# Altium footprint library 74xx-us.PCBLIB: 32 footprints (part 2 of 2)
Each footprint in its own frame and in the unit in brackets; x right, y up, seen from the top. Pads: shape width x height; smd on the part's side, far side on the other; paste and mask are expansions set on the pad; w line width, h text height; cw(c..) or ccw(c..) is an arc to the next point about the centre after c.
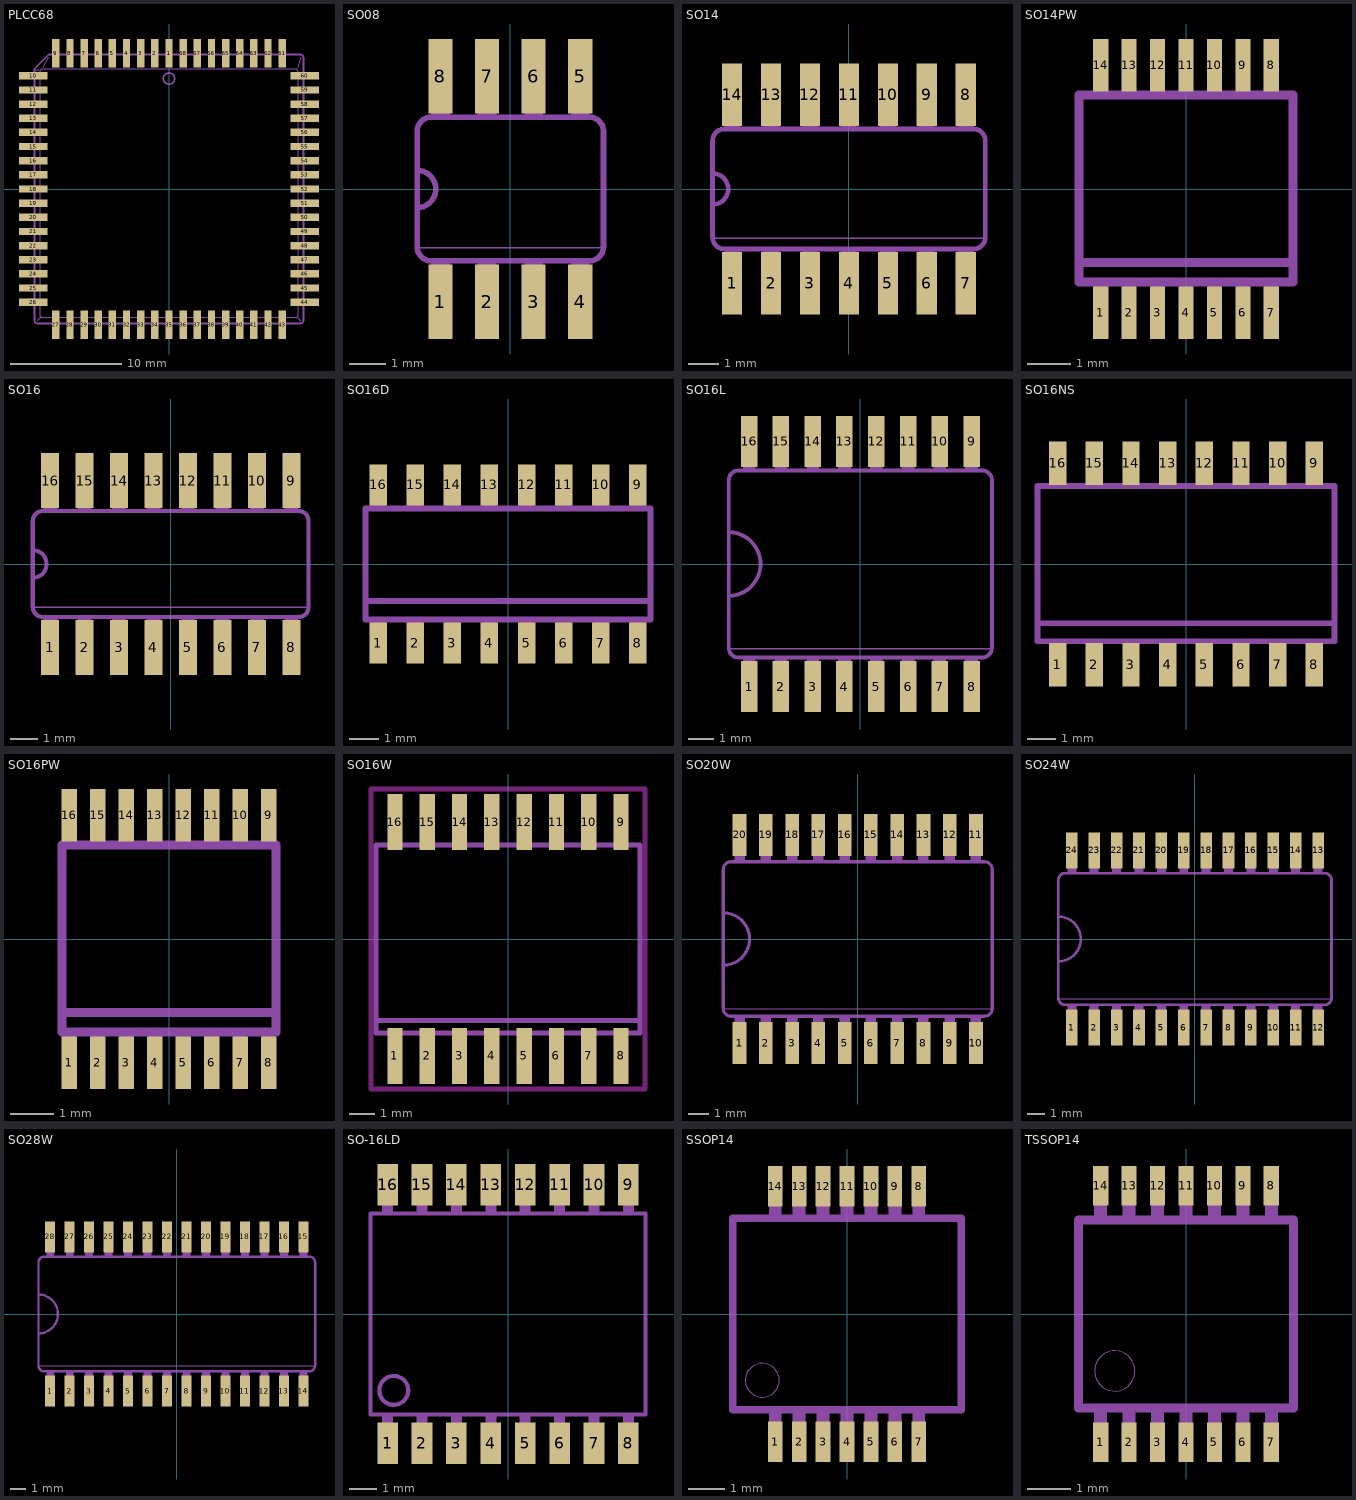
[diagram p1: the footprints below, top view; thin cyan lines are the x and y axes]

## PLCC68 [mil]
pads (68):
  rect 26x100 smd: 1(0,480) 2(-50,480) 3(-100,480) 4(-150,480) 5(-200,480) 6(-250,480) 7(-300,480) 8(-350,480) 9(-400,480) 27(-400,-480) 28(-350,-480) 29(-300,-480) 30(-250,-480) 31(-200,-480) 32(-150,-480) 33(-100,-480) 34(-50,-480) 35(0,-480) 36(50,-480) 37(100,-480) 38(150,-480) 39(200,-480) 40(250,-480) 41(300,-480) 42(350,-480) 43(400,-480) 61(400,480) 62(350,480) 63(300,480) 64(250,480) 65(200,480) 66(150,480) 67(100,480) 68(50,480)
  rect 100x26 smd: 10(-480,400) 11(-480,350) 12(-480,300) 13(-480,250) 14(-480,200) 15(-480,150) 16(-480,100) 17(-480,50) 18(-480,0) 19(-480,-50) 20(-480,-100) 21(-480,-150) 22(-480,-200) 23(-480,-250) 24(-480,-300) 25(-480,-350) 26(-480,-400) 44(480,-400) 45(480,-350) 46(480,-300) 47(480,-250) 48(480,-200) 49(480,-150) 50(480,-100) 51(480,-50) 52(480,0) 53(480,50) 54(480,100) 55(480,150) 56(480,200) 57(480,250) 58(480,300) 59(480,350) 60(480,400)
Mechanical 2:
  circle w6: c0,390 r20
  lines w6: -475,-417 -475,-465 ccw(c-465,-465) -465,-475 -417,-475 ; -475,-383 -475,-367 ; -475,-333 -475,-317 ; -475,-283 -475,-267 ; -475,-233 -475,-217 ; -475,-183 -475,-167 ; -475,-133 -475,-117 ; -475,-83 -475,-67 ; -475,-33 -475,-17 ; -475,17 -475,33 ; -475,67 -475,83 ; -475,117 -475,133 ; -475,167 -475,183 ; -475,217 -475,233 ; -475,267 -475,283 ; -475,317 -475,333 ; -475,367 -475,383 ; -475,417 -475,425 -425,475 -417,475 ; -383,-475 -367,-475 ; -383,475 -367,475 ; -333,-475 -317,-475 ; -333,475 -317,475 ; -283,-475 -267,-475 ; -283,475 -267,475 ; -233,-475 -217,-475 ; -233,475 -217,475 ; -183,-475 -167,-475 ; -183,475 -167,475 ; -133,-475 -117,-475 ; -133,475 -117,475 ; -83,-475 -67,-475 ; -83,475 -67,475 ; -33,-475 -17,-475 ; -33,475 -17,475 ; 17,-475 33,-475 ; 17,475 33,475 ; 67,-475 83,-475 ; 67,475 83,475 ; 117,-475 133,-475 ; 117,475 133,475 ; 167,-475 183,-475 ; 167,475 183,475 ; 217,-475 233,-475 ; 217,475 233,475 ; 267,-475 283,-475 ; 267,475 283,475 ; 317,-475 333,-475 ; 317,475 333,475 ; 367,-475 383,-475 ; 367,475 383,475 ; 417,-475 465,-475 ccw(c465,-465) 475,-465 475,-417 ; 417,475 465,475 cw(c465,465) 475,465 475,417 ; 475,-383 475,-367 ; 475,-333 475,-317 ; 475,-283 475,-267 ; 475,-233 475,-217 ; 475,-183 475,-167 ; 475,-133 475,-117 ; 475,-83 475,-67 ; 475,-33 475,-17 ; 475,17 475,33 ; 475,67 475,83 ; 475,117 475,133 ; 475,167 475,183 ; 475,217 475,233 ; 475,267 475,283 ; 475,317 475,333 ; 475,367 475,383
Mechanical 18:
  rectangle: 475,-60 500,-40
  rectangle: 475,-10 500,10
  rectangle: 475,-410 500,-390
  rectangle: 475,-360 500,-340
  rectangle: 475,-210 500,-190
  rectangle: 475,-160 500,-140
  rectangle: 475,-110 500,-90
  rectangle: 475,-310 500,-290
  rectangle: 475,-260 500,-240
  rectangle: 475,40 500,60
  rectangle: 475,90 500,110
  rectangle: 475,140 500,160
  rectangle: 475,190 500,210
  rectangle: 475,240 500,260
  rectangle: 475,290 500,310
  rectangle: 475,340 500,360
  rectangle: 475,390 500,410
  rectangle: -60,-500 -40,-475
  rectangle: -10,-500 10,-475
  rectangle: -410,-500 -390,-475
  rectangle: -360,-500 -340,-475
  rectangle: -210,-500 -190,-475
  rectangle: -160,-500 -140,-475
  rectangle: -110,-500 -90,-475
  rectangle: -310,-500 -290,-475
  rectangle: -260,-500 -240,-475
  rectangle: 40,-500 60,-475
  rectangle: 90,-500 110,-475
  rectangle: 140,-500 160,-475
  rectangle: 190,-500 210,-475
  rectangle: 240,-500 260,-475
  rectangle: 290,-500 310,-475
  rectangle: 340,-500 360,-475
  rectangle: 390,-500 410,-475
  rectangle: -500,40 -475,60
  rectangle: -500,-10 -475,10
  rectangle: -500,390 -475,410
  rectangle: -500,340 -475,360
  rectangle: -500,190 -475,210
  rectangle: -500,140 -475,160
  rectangle: -500,90 -475,110
  rectangle: -500,290 -475,310
  rectangle: -500,240 -475,260
  rectangle: -500,-60 -475,-40
  rectangle: -500,-110 -475,-90
  rectangle: -500,-160 -475,-140
  rectangle: -500,-210 -475,-190
  rectangle: -500,-260 -475,-240
  rectangle: -500,-310 -475,-290
  rectangle: -500,-360 -475,-340
  rectangle: -500,-410 -475,-390
  rectangle: 40,475 60,500
  rectangle: -10,475 10,500
  rectangle: 390,475 410,500
  rectangle: 340,475 360,500
  rectangle: 190,475 210,500
  rectangle: 140,475 160,500
  rectangle: 90,475 110,500
  rectangle: 290,475 310,500
  rectangle: 240,475 260,500
  rectangle: -60,475 -40,500
  rectangle: -110,475 -90,500
  rectangle: -160,475 -140,500
  rectangle: -210,475 -190,500
  rectangle: -260,475 -240,500
  rectangle: -310,475 -290,500
  rectangle: -360,475 -340,500
  rectangle: -410,475 -390,500
  lines w2: -470,420 -460,420 ; -465,-465 -455,-455 ; -445,430 -425,465 ; 455,-455 465,-465 ; 455,430 465,465 ; -455,-450 -450,-455 450,-455 455,-450 455,420 450,425 -450,425 -455,420 -455,-450
  lines w6: -475,-415 -475,-385 ; -475,-365 -475,-335 ; -475,-315 -475,-285 ; -475,-265 -475,-235 ; -475,-215 -475,-185 ; -475,-165 -475,-135 ; -475,-115 -475,-85 ; -475,-65 -475,-35 ; -475,-15 -475,15 ; -475,35 -475,65 ; -475,85 -475,115 ; -475,135 -475,165 ; -475,185 -475,215 ; -475,235 -475,265 ; -475,285 -475,315 ; -475,335 -475,365 ; -475,385 -475,415 ; -415,-475 -385,-475 ; -415,475 -385,475 ; -365,-475 -335,-475 ; -365,475 -335,475 ; -315,-475 -285,-475 ; -315,475 -285,475 ; -265,-475 -235,-475 ; -265,475 -235,475 ; -215,-475 -185,-475 ; -215,475 -185,475 ; -165,-475 -135,-475 ; -165,475 -135,475 ; -115,-475 -85,-475 ; -115,475 -85,475 ; -65,-475 -35,-475 ; -65,475 -35,475 ; -15,-475 15,-475 ; -15,475 15,475 ; 35,-475 65,-475 ; 35,475 65,475 ; 85,-475 115,-475 ; 85,475 115,475 ; 135,-475 165,-475 ; 135,475 165,475 ; 185,-475 215,-475 ; 185,475 215,475 ; 235,-475 265,-475 ; 235,475 265,475 ; 285,-475 315,-475 ; 285,475 315,475 ; 335,-475 365,-475 ; 335,475 365,475 ; 385,-475 415,-475 ; 385,475 415,475 ; 475,-415 475,-385 ; 475,-365 475,-335 ; 475,-315 475,-285 ; 475,-265 475,-235 ; 475,-215 475,-185 ; 475,-165 475,-135 ; 475,-115 475,-85 ; 475,-65 475,-35 ; 475,-15 475,15 ; 475,35 475,65 ; 475,85 475,115 ; 475,135 475,165 ; 475,185 475,215 ; 475,235 475,265 ; 475,285 475,315 ; 475,335 475,365 ; 475,385 475,415

## SO08 [mil]
pads (8):
  rect 26x80 smd: 1(-75,-121) 2(-25,-121) 3(25,-121) 4(75,-121) 5(75,121) 6(25,121) 7(-25,121) 8(-75,121)
Mechanical 2:
  lines w2: -100,-63 100,-63
  lines w6: -100,-20 -100,20 ; -100,-20 -100,-62 ccw(c-85,-62) -85,-77 85,-77 ccw(c85,-62) 100,-62 100,62 ccw(c85,62) 85,77 -85,77 ccw(c-85,62) -100,62 -100,20 ; -100,-20 ccw(c-100,0) -100,20
Mechanical 18:
  rectangle: 65,77 85,122
  rectangle: -85,-122 -65,-77
  rectangle: -35,-122 -15,-77
  rectangle: 15,-121 35,-76
  rectangle: 65,-122 85,-77
  rectangle: 15,77 35,122
  rectangle: -35,77 -15,122
  rectangle: -85,77 -65,122

## SO14 [mil]
pads (14):
  rect 26x80 smd: 1(-150,-121) 2(-100,-121) 3(-50,-121) 4(0,-121) 5(50,-121) 6(100,-121) 7(150,-121) 8(150,121) 9(100,121) 10(50,121) 11(0,121) 12(-50,121) 13(-100,121) 14(-150,121)
Mechanical 2:
  lines w2: -175,-63 175,-63
  lines w6: -175,-20 -175,20 ; -175,-20 -175,-62 ccw(c-160,-62) -160,-77 160,-77 ccw(c160,-62) 175,-62 175,62 ccw(c160,62) 160,77 -160,77 ccw(c-160,62) -175,62 -175,20 ; -175,-20 ccw(c-175,0) -175,20
Mechanical 18:
  rectangle: -10,77 10,122
  rectangle: -160,-122 -140,-77
  rectangle: -110,-122 -90,-77
  rectangle: -60,-121 -40,-76
  rectangle: -10,-122 10,-77
  rectangle: -60,77 -40,122
  rectangle: -110,77 -90,122
  rectangle: -160,77 -140,122
  rectangle: 40,77 60,122
  rectangle: 90,77 110,122
  rectangle: 140,77 160,122
  rectangle: 40,-122 60,-77
  rectangle: 90,-122 110,-77
  rectangle: 140,-122 160,-77

## SO14PW [mm]
pads (14):
  rect 0.35x1.2 smd: 1(-1.95,-2.825) 2(-1.3,-2.825) 3(-0.65,-2.825) 4(0,-2.825) 5(0.65,-2.825) 6(1.3,-2.825) 7(1.95,-2.825) 8(1.95,2.825) 9(1.3,2.825) 10(0.65,2.825) 11(0,2.825) 12(-0.65,2.825) 13(-1.3,2.825) 14(-1.95,2.825)
Mechanical 2:
  lines w0.203: -2.44,-1.675 2.44,-1.675
Mechanical 18:
  rectangle: -2.1,-3.3 -1.8,-2.1
  rectangle: -1.45,-3.3 -1.15,-2.1
  rectangle: -0.8,-3.3 -0.5,-2.1
  rectangle: -0.15,-3.3 0.15,-2.1
  rectangle: 0.5,-3.3 0.8,-2.1
  rectangle: 1.15,-3.3 1.45,-2.1
  rectangle: 1.8,-3.3 2.1,-2.1
  region: 2.1,3.3 1.8,3.3 1.8,2.1 2.1,2.1
  region: 1.45,3.3 1.15,3.3 1.15,2.1 1.45,2.1
  region: 0.8,3.3 0.5,3.3 0.5,2.1 0.8,2.1
  region: 0.15,3.3 -0.15,3.3 -0.15,2.1 0.15,2.1
  region: -0.5,3.3 -0.8,3.3 -0.8,2.1 -0.5,2.1
  region: -1.15,3.3 -1.45,3.3 -1.45,2.1 -1.15,2.1
  region: -1.8,3.3 -2.1,3.3 -2.1,2.1 -1.8,2.1
  lines w0.203: -2.44,-2.125 2.44,-2.125 2.44,2.15 -2.44,2.15 -2.44,-2.125

## SO16 [mil]
pads (16):
  rect 26x80 smd: 1(-175,-121) 2(-125,-121) 3(-75,-121) 4(-25,-121) 5(25,-121) 6(75,-121) 7(125,-121) 8(175,-121) 9(175,121) 10(125,121) 11(75,121) 12(25,121) 13(-25,121) 14(-75,121) 15(-125,121) 16(-175,121)
Mechanical 2:
  lines w2: -200,-63 200,-63
  lines w6: -200,-20 -200,20 ; -200,-20 -200,-62 ccw(c-185,-62) -185,-77 185,-77 ccw(c185,-62) 200,-62 200,62 ccw(c185,62) 185,77 -185,77 ccw(c-185,62) -200,62 -200,20 ; -200,-20 ccw(c-200,0) -200,20
Mechanical 18:
  rectangle: -35,77 -15,122
  rectangle: -185,-122 -165,-77
  rectangle: -135,-122 -115,-77
  rectangle: -85,-121 -65,-76
  rectangle: -35,-122 -15,-77
  rectangle: -85,77 -65,122
  rectangle: -135,77 -115,122
  rectangle: -185,77 -165,122
  rectangle: 15,-122 35,-77
  rectangle: 65,-122 85,-77
  rectangle: 115,-122 135,-77
  rectangle: 165,-122 185,-77
  rectangle: 15,77 35,122
  rectangle: 65,77 85,122
  rectangle: 115,77 135,122
  rectangle: 165,77 185,122

## SO16D [mm]
pads (16):
  rect 0.6x1.4 smd: 1(-4.445,-2.715) 2(-3.175,-2.715) 3(-1.905,-2.715) 4(-0.635,-2.715) 5(0.635,-2.715) 6(1.905,-2.715) 7(3.175,-2.715) 8(4.445,-2.715) 9(4.445,2.715) 10(3.175,2.715) 11(1.905,2.715) 12(0.635,2.715) 13(-0.635,2.715) 14(-1.905,2.715) 15(-3.175,2.715) 16(-4.445,2.715)
Mechanical 2:
  lines w0.203: -4.89,-1.9 -4.89,1.9 ; -4.84,-1.275 4.84,-1.275 ; 4.89,-1.9 4.89,1.9
Mechanical 18:
  rectangle: -4.69,-3.12 -4.2,-1.85
  rectangle: -3.42,-3.12 -2.93,-1.85
  rectangle: -2.15,-3.12 -1.66,-1.85
  rectangle: -0.88,-3.12 -0.39,-1.85
  rectangle: 0.39,-3.12 0.88,-1.85
  rectangle: 1.66,-3.12 2.15,-1.85
  rectangle: 2.93,-3.12 3.42,-1.85
  rectangle: 4.2,-3.12 4.69,-1.85
  region: 4.69,3.12 4.2,3.12 4.2,1.85 4.69,1.85
  region: 3.42,3.12 2.93,3.12 2.93,1.85 3.42,1.85
  region: 2.15,3.12 1.66,3.12 1.66,1.85 2.15,1.85
  region: 0.88,3.12 0.39,3.12 0.39,1.85 0.88,1.85
  region: -0.39,3.12 -0.88,3.12 -0.88,1.85 -0.39,1.85
  region: -1.66,3.12 -2.15,3.12 -2.15,1.85 -1.66,1.85
  region: -2.93,3.12 -3.42,3.12 -3.42,1.85 -2.93,1.85
  region: -4.2,3.12 -4.69,3.12 -4.69,1.85 -4.2,1.85
  lines w0.203: -4.89,-1.9 4.89,-1.9 ; -4.89,1.9 4.89,1.9

## SO16L [mil]
pads (16):
  rect 26x80 smd: 1(-175,-193) 2(-125,-193) 3(-75,-193) 4(-25,-193) 5(25,-193) 6(75,-193) 7(125,-193) 8(175,-193) 9(175,193) 10(125,193) 11(75,193) 12(25,193) 13(-25,193) 14(-75,193) 15(-125,193) 16(-175,193)
Mechanical 2:
  rectangle: -185,-152 -165,-147
  rectangle: -135,-152 -115,-147
  rectangle: -85,-152 -65,-147
  rectangle: -35,-152 -15,-147
  rectangle: 15,-152 35,-147
  rectangle: 65,-152 85,-147
  rectangle: 115,-152 135,-147
  rectangle: 165,-152 185,-147
  rectangle: -185,147 -165,152
  rectangle: -135,147 -115,152
  rectangle: -85,147 -65,152
  rectangle: -35,147 -15,152
  rectangle: 15,147 35,152
  rectangle: 65,147 85,152
  rectangle: 115,147 135,152
  rectangle: 165,147 185,152
  lines w2: -205,-133 206,-133
  lines w6: -207,-50 -207,50 ; -207,-50 -207,-132 ccw(c-192,-132) -192,-147 192,-147 ccw(c192,-132) 207,-132 207,132 ccw(c192,132) 192,147 -192,147 ccw(c-192,132) -207,132 -207,50 ; -207,-50 ccw(c-207,0) -207,50
Mechanical 18:
  rectangle: -185,-210 -165,-152
  rectangle: -135,-210 -115,-152
  rectangle: -85,-210 -65,-152
  rectangle: -35,-210 -15,-152
  rectangle: 15,-210 35,-152
  rectangle: 65,-210 85,-152
  rectangle: 115,-210 135,-152
  rectangle: 165,-210 185,-152
  rectangle: -185,152 -165,210
  rectangle: -135,152 -115,210
  rectangle: -85,152 -65,210
  rectangle: -35,152 -15,210
  rectangle: 15,152 35,210
  rectangle: 65,152 85,210
  rectangle: 115,152 135,210
  rectangle: 165,152 185,210

## SO16NS [mil]
pads (16):
  rect 23.62x59.06 smd: 1(-175,-137.4) 2(-125,-137.4) 3(-75,-137.4) 4(-25,-137.4) 5(25,-137.4) 6(75,-137.4) 7(125,-137.4) 8(175,-137.4) 9(175,137.4) 10(125,137.4) 11(75,137.4) 12(25,137.4) 13(-25,137.4) 14(-75,137.4) 15(-125,137.4) 16(-175,137.4)
Mechanical 2:
  lines w8: -202.36,-105.32 -202.36,106.3 ; -200.39,-80.71 200.39,-80.71 ; 202.36,-105.32 202.36,106.3
Mechanical 18:
  rectangle: -184.65,-161.42 -165.35,-103.35
  rectangle: -134.65,-161.42 -115.35,-103.35
  rectangle: -84.65,-161.42 -65.35,-103.35
  rectangle: -34.65,-161.42 -15.35,-103.35
  rectangle: 15.35,-161.42 34.65,-103.35
  rectangle: 65.35,-161.42 84.65,-103.35
  rectangle: 115.35,-161.42 134.65,-103.35
  rectangle: 165.35,-161.42 184.65,-103.35
  region: 184.65,161.42 165.35,161.42 165.35,103.35 184.65,103.35
  region: 134.65,161.42 115.35,161.42 115.35,103.35 134.65,103.35
  region: 84.65,161.42 65.35,161.42 65.35,103.35 84.65,103.35
  region: 34.65,161.42 15.35,161.42 15.35,103.35 34.65,103.35
  region: -15.35,161.42 -34.65,161.42 -34.65,103.35 -15.35,103.35
  region: -65.35,161.42 -84.65,161.42 -84.65,103.35 -65.35,103.35
  region: -115.35,161.42 -134.65,161.42 -134.65,103.35 -115.35,103.35
  region: -165.35,161.42 -184.65,161.42 -184.65,103.35 -165.35,103.35
  lines w8: -202.36,-105.32 202.36,-105.32 ; -202.36,106.3 202.36,106.3

## SO16PW [mm]
pads (16):
  rect 0.35x1.2 smd: 1(-2.275,-2.825) 2(-1.625,-2.825) 3(-0.975,-2.825) 4(-0.325,-2.825) 5(0.325,-2.825) 6(0.975,-2.825) 7(1.625,-2.825) 8(2.275,-2.825) 9(2.275,2.825) 10(1.625,2.825) 11(0.975,2.825) 12(0.325,2.825) 13(-0.325,2.825) 14(-0.975,2.825) 15(-1.625,2.825) 16(-2.275,2.825)
Mechanical 2:
  lines w0.203: -2.44,-1.675 2.44,-1.675
Mechanical 18:
  rectangle: -2.425,-3.3 -2.125,-2.1
  rectangle: -1.775,-3.3 -1.475,-2.1
  rectangle: -1.125,-3.3 -0.825,-2.1
  rectangle: -0.475,-3.3 -0.175,-2.1
  rectangle: 0.175,-3.3 0.475,-2.1
  rectangle: 0.825,-3.3 1.125,-2.1
  rectangle: 1.475,-3.3 1.775,-2.1
  rectangle: 2.125,-3.3 2.425,-2.1
  region: 2.425,3.3 2.125,3.3 2.125,2.1 2.425,2.1
  region: 1.775,3.3 1.475,3.3 1.475,2.1 1.775,2.1
  region: 1.125,3.3 0.825,3.3 0.825,2.1 1.125,2.1
  region: 0.475,3.3 0.175,3.3 0.175,2.1 0.475,2.1
  region: -0.175,3.3 -0.475,3.3 -0.475,2.1 -0.175,2.1
  region: -0.825,3.3 -1.125,3.3 -1.125,2.1 -0.825,2.1
  region: -1.475,3.3 -1.775,3.3 -1.775,2.1 -1.475,2.1
  region: -2.125,3.3 -2.425,3.3 -2.425,2.1 -2.125,2.1
  lines w0.203: -2.44,-2.125 2.44,-2.125 2.44,2.15 -2.44,2.15 -2.44,-2.125

## SO16W [mil]
pads (16):
  rect 23.62x86.61 smd: 1(-175,-181.1) 2(-125,-181.1) 3(-75,-181.1) 4(-25,-181.1) 5(25,-181.1) 6(75,-181.1) 7(125,-181.1) 8(175,-181.1) 9(175,181.1) 10(125,181.1) 11(75,181.1) 12(25,181.1) 13(-25,181.1) 14(-75,181.1) 15(-125,181.1) 16(-175,181.1)
Keep-Out Layer:
  lines w7.87: -212.4,-232.28 212.4,-232.28 212.4,232.28 -212.4,232.28 -212.4,-232.28
Mechanical 18:
  rectangle: -184.65,-209.45 -165.35,-149.61
  rectangle: -134.65,-209.45 -115.35,-149.61
  rectangle: -84.65,-209.45 -65.35,-149.61
  rectangle: -34.65,-209.45 -15.35,-149.61
  rectangle: 15.35,-209.45 34.65,-149.61
  rectangle: 65.35,-209.45 84.65,-149.61
  rectangle: 115.35,-209.45 134.65,-149.61
  rectangle: 165.35,-209.45 184.65,-149.61
  rectangle: 165.35,149.61 184.65,209.45
  rectangle: 115.35,149.61 134.65,209.45
  rectangle: 65.35,149.61 84.65,209.45
  rectangle: 15.35,149.61 34.65,209.45
  rectangle: -34.65,149.61 -15.35,209.45
  rectangle: -84.65,149.61 -65.35,209.45
  rectangle: -134.65,149.61 -115.35,209.45
  rectangle: -184.65,149.61 -165.35,209.45
  lines w8: -204.33,-125.98 -204.33,-145.67 204.33,-145.67 204.33,-125.98 ; -204.33,-125.98 -204.33,145.67 204.33,145.67 204.33,-125.98 ; -204.33,-125.98 204.33,-125.98

## SO20W [mil]
pads (20):
  rect 26x80 smd: 1(-225,-198) 2(-175,-198) 3(-125,-198) 4(-75,-198) 5(-25,-198) 6(25,-198) 7(75,-198) 8(125,-198) 9(175,-198) 10(225,-198) 11(225,198) 12(175,198) 13(125,198) 14(75,198) 15(25,198) 16(-25,198) 17(-75,198) 18(-125,198) 19(-175,198) 20(-225,198)
Mechanical 2:
  lines w2: -255,-133 255,-133
  lines w6: -241,-147 cw(c-241,-132) -256,-132 -256,-50 ; -241,147 ccw(c-241,132) -256,132 -256,50 ; 241,-147 ccw(c241,-132) 256,-132 256,132 ccw(c241,132) 241,147 ; -256,-50 -256,50 ; -256,-50 ccw(c-256,0) -256,50
Mechanical 18:
  rectangle: -235,-152 -215,-147
  rectangle: -235,-210 -215,-152
  rectangle: -185,-152 -165,-147
  rectangle: -185,-210 -165,-152
  rectangle: -135,-152 -115,-147
  rectangle: -135,-210 -115,-152
  rectangle: -85,-152 -65,-147
  rectangle: -85,-210 -65,-152
  rectangle: -35,-210 -15,-152
  rectangle: -35,-152 -15,-147
  rectangle: 15,-152 35,-147
  rectangle: 15,-210 35,-152
  rectangle: 65,-152 85,-147
  rectangle: 65,-210 85,-152
  rectangle: 115,-152 135,-147
  rectangle: 115,-210 135,-152
  rectangle: -235,152 -215,210
  rectangle: -235,147 -215,152
  rectangle: -185,147 -165,152
  rectangle: -185,152 -165,210
  rectangle: -135,147 -115,152
  rectangle: -135,152 -115,210
  rectangle: -85,147 -65,152
  rectangle: -85,152 -65,210
  rectangle: -35,147 -15,152
  rectangle: -35,152 -15,210
  rectangle: 15,147 35,152
  rectangle: 15,152 35,210
  rectangle: 65,147 85,152
  rectangle: 65,152 85,210
  rectangle: 115,147 135,152
  rectangle: 115,152 135,210
  rectangle: 165,147 185,152
  rectangle: 215,147 235,152
  rectangle: 165,152 185,210
  rectangle: 215,152 235,210
  rectangle: 165,-152 185,-147
  rectangle: 215,-152 235,-147
  rectangle: 165,-210 185,-152
  rectangle: 215,-210 235,-152
  lines w6: -241,-147 241,-147 ; -241,147 241,147

## SO24W [mil]
pads (24):
  rect 26x80 smd: 1(-275,-198) 2(-225,-198) 3(-175,-198) 4(-125,-198) 5(-75,-198) 6(-25,-198) 7(25,-198) 8(75,-198) 9(125,-198) 10(175,-198) 11(225,-198) 12(275,-198) 13(275,198) 14(225,198) 15(175,198) 16(125,198) 17(75,198) 18(25,198) 19(-25,198) 20(-75,198) 21(-125,198) 22(-175,198) 23(-225,198) 24(-275,198)
Mechanical 2:
  rectangle: -285,-152 -265,-147
  rectangle: -235,-152 -215,-147
  rectangle: -185,-152 -165,-147
  rectangle: -135,-152 -115,-147
  rectangle: -85,-152 -65,-147
  rectangle: -35,-152 -15,-147
  rectangle: 15,-152 35,-147
  rectangle: 65,-152 85,-147
  rectangle: -285,147 -265,152
  rectangle: -235,147 -215,152
  rectangle: -185,147 -165,152
  rectangle: -135,147 -115,152
  rectangle: -85,147 -65,152
  rectangle: -35,147 -15,152
  rectangle: 15,147 35,152
  rectangle: 65,147 85,152
  rectangle: 115,147 135,152
  rectangle: 165,147 185,152
  rectangle: 215,147 235,152
  rectangle: 265,147 285,152
  rectangle: 115,-152 135,-147
  rectangle: 165,-152 185,-147
  rectangle: 215,-152 235,-147
  rectangle: 265,-152 285,-147
  lines w2: -305,-133 305,-133
  lines w6: -305,-50 -305,50 ; -305,-50 -305,-132 ccw(c-290,-132) -290,-147 290,-147 ccw(c290,-132) 305,-132 305,132 ccw(c290,132) 290,147 -290,147 ccw(c-290,132) -305,132 -305,50 ; -305,-50 ccw(c-305,0) -305,50
Mechanical 18:
  rectangle: -285,-210 -265,-152
  rectangle: -235,-210 -215,-152
  rectangle: -185,-210 -165,-152
  rectangle: -135,-210 -115,-152
  rectangle: -85,-210 -65,-152
  rectangle: -35,-210 -15,-152
  rectangle: 15,-210 35,-152
  rectangle: 65,-210 85,-152
  rectangle: -285,152 -265,210
  rectangle: -235,152 -215,210
  rectangle: -185,152 -165,210
  rectangle: -135,152 -115,210
  rectangle: -85,152 -65,210
  rectangle: -35,152 -15,210
  rectangle: 15,152 35,210
  rectangle: 65,152 85,210
  rectangle: 115,152 135,210
  rectangle: 165,152 185,210
  rectangle: 215,152 235,210
  rectangle: 265,152 285,210
  rectangle: 115,-210 135,-152
  rectangle: 165,-210 185,-152
  rectangle: 215,-210 235,-152
  rectangle: 265,-210 285,-152

## SO28W [mil]
pads (28):
  rect 26x80 smd: 1(-325,-198) 2(-275,-198) 3(-225,-198) 4(-175,-198) 5(-125,-198) 6(-75,-198) 7(-25,-198) 8(25,-198) 9(75,-198) 10(125,-198) 11(175,-198) 12(225,-198) 13(275,-198) 14(325,-198) 15(325,198) 16(275,198) 17(225,198) 18(175,198) 19(125,198) 20(75,198) 21(25,198) 22(-25,198) 23(-75,198) 24(-125,198) 25(-175,198) 26(-225,198) 27(-275,198) 28(-325,198)
Mechanical 2:
  rectangle: -335,-152 -315,-147
  rectangle: -285,-152 -265,-147
  rectangle: -235,-152 -215,-147
  rectangle: -185,-152 -165,-147
  rectangle: -135,-152 -115,-147
  rectangle: -85,-152 -65,-147
  rectangle: -35,-152 -15,-147
  rectangle: 15,-152 35,-147
  rectangle: -335,147 -315,152
  rectangle: -285,147 -265,152
  rectangle: -235,147 -215,152
  rectangle: -185,147 -165,152
  rectangle: -135,147 -115,152
  rectangle: -85,147 -65,152
  rectangle: -35,147 -15,152
  rectangle: 15,147 35,152
  rectangle: 65,147 85,152
  rectangle: 115,147 135,152
  rectangle: 165,147 185,152
  rectangle: 215,147 235,152
  rectangle: 265,147 285,152
  rectangle: 315,147 335,152
  rectangle: 65,-152 85,-147
  rectangle: 115,-152 135,-147
  rectangle: 165,-152 185,-147
  rectangle: 215,-152 235,-147
  rectangle: 265,-152 285,-147
  rectangle: 315,-152 335,-147
  lines w2: -355,-133 355,-133
  lines w6: -355,-50 -355,50 ; -355,-50 -355,-132 ccw(c-340,-132) -340,-147 340,-147 ccw(c340,-132) 355,-132 355,132 ccw(c340,132) 340,147 -340,147 ccw(c-340,132) -355,132 -355,50 ; -355,-50 ccw(c-355,0) -355,50
Mechanical 18:
  rectangle: -335,-210 -315,-152
  rectangle: -285,-210 -265,-152
  rectangle: -235,-210 -215,-152
  rectangle: -185,-210 -165,-152
  rectangle: -135,-210 -115,-152
  rectangle: -85,-210 -65,-152
  rectangle: -35,-210 -15,-152
  rectangle: 15,-210 35,-152
  rectangle: -335,152 -315,210
  rectangle: -285,152 -265,210
  rectangle: -235,152 -215,210
  rectangle: -185,152 -165,210
  rectangle: -135,152 -115,210
  rectangle: -85,152 -65,210
  rectangle: -35,152 -15,210
  rectangle: 15,152 35,210
  rectangle: 65,-210 85,-152
  rectangle: 115,-210 135,-152
  rectangle: 165,-210 185,-152
  rectangle: 215,-210 235,-152
  rectangle: 265,-210 285,-152
  rectangle: 315,-210 335,-152
  rectangle: 65,152 85,210
  rectangle: 115,152 135,210
  rectangle: 165,152 185,210
  rectangle: 215,152 235,210
  rectangle: 265,152 285,210
  rectangle: 315,152 335,210

## SO-16LD [mil]
pads (16):
  rect 30x60 smd: 1(-175,-188) 2(-125,-188) 3(-75,-188) 4(-25,-188) 5(25,-188) 6(75,-188) 7(125,-188) 8(175,-188) 9(175,188) 10(125,188) 11(75,188) 12(25,188) 13(-25,188) 14(-75,188) 15(-125,188) 16(-175,188)
Mechanical 2:
  circle w6: c-166,-111 r21
  lines w6: -200,-146 200,-146 200,146 -200,146 -200,-146
Mechanical 18:
  rectangle: 167,148 183,200
  rectangle: 117,148 133,200
  rectangle: 67,148 83,200
  rectangle: 17,148 33,200
  rectangle: -33,148 -17,200
  rectangle: -83,148 -67,200
  rectangle: -133,148 -117,200
  rectangle: -183,148 -167,200
  rectangle: 167,-200 183,-148
  rectangle: 117,-200 133,-148
  rectangle: 67,-200 83,-148
  rectangle: 17,-200 33,-148
  rectangle: -33,-200 -17,-148
  rectangle: -83,-200 -67,-148
  rectangle: -133,-200 -117,-148
  rectangle: -183,-200 -167,-148

## SSOP14 [mm]
pads (14):
  rect 0.4x1.1 smd mask-0.55: 1(-1.95,-3.475) 2(-1.3,-3.475) 3(-0.65,-3.475) 4(0,-3.475) 5(0.65,-3.475) 6(1.3,-3.475) 7(1.95,-3.475) 8(1.95,3.475) 9(1.3,3.475) 10(0.65,3.475) 11(0,3.475) 12(-0.65,3.475) 13(-1.3,3.475) 14(-1.95,3.475)
Top Solder:
  rectangle: -2.2,-4.075 -1.7,-2.875
  rectangle: -1.55,-4.075 -1.05,-2.875
  rectangle: -0.9,-4.075 -0.4,-2.875
  rectangle: -0.25,-4.075 0.25,-2.875
  rectangle: 0.4,-4.075 0.9,-2.875
  rectangle: 1.05,-4.075 1.55,-2.875
  rectangle: 1.7,-4.075 2.2,-2.875
  region: 2.2,4.075 1.7,4.075 1.7,2.875 2.2,2.875
  region: 1.55,4.075 1.05,4.075 1.05,2.875 1.55,2.875
  region: 0.9,4.075 0.4,4.075 0.4,2.875 0.9,2.875
  region: 0.25,4.075 -0.25,4.075 -0.25,2.875 0.25,2.875
  region: -0.4,4.075 -0.9,4.075 -0.9,2.875 -0.4,2.875
  region: -1.05,4.075 -1.55,4.075 -1.55,2.875 -1.05,2.875
  region: -1.7,4.075 -2.2,4.075 -2.2,2.875 -1.7,2.875
Mechanical 2:
  circle w0: c-2.3,-1.8 r0.459
  lines w0.203: -3.1,-2.6 3.1,-2.6 3.1,2.6 -3.1,2.6 -3.1,-2.6
Mechanical 18:
  rectangle: -2.125,-3.95 -1.775,-2.7
  rectangle: -1.475,-3.95 -1.125,-2.7
  rectangle: -0.825,-3.95 -0.475,-2.7
  rectangle: -0.175,-3.95 0.175,-2.7
  rectangle: 0.475,-3.95 0.825,-2.7
  rectangle: 1.125,-3.95 1.475,-2.7
  rectangle: 1.775,-3.95 2.125,-2.7
  region: 2.125,3.95 1.775,3.95 1.775,2.7 2.125,2.7
  region: 1.475,3.95 1.125,3.95 1.125,2.7 1.475,2.7
  region: 0.825,3.95 0.475,3.95 0.475,2.7 0.825,2.7
  region: 0.175,3.95 -0.175,3.95 -0.175,2.7 0.175,2.7
  region: -0.475,3.95 -0.825,3.95 -0.825,2.7 -0.475,2.7
  region: -1.125,3.95 -1.475,3.95 -1.475,2.7 -1.125,2.7
  region: -1.775,3.95 -2.125,3.95 -2.125,2.7 -1.775,2.7

## TSSOP14 [mm]
pads (14):
  rect 0.35x0.9 smd mask-0.45: 1(-1.95,-2.925) 2(-1.3,-2.925) 3(-0.65,-2.925) 4(0,-2.925) 5(0.65,-2.925) 6(1.3,-2.925) 7(1.95,-2.925) 8(1.95,2.925) 9(1.3,2.925) 10(0.65,2.925) 11(0,2.925) 12(-0.65,2.925) 13(-1.3,2.925) 14(-1.95,2.925)
Top Solder:
  rectangle: -2.175,-3.425 -1.725,-2.425
  rectangle: -1.525,-3.425 -1.075,-2.425
  rectangle: -0.875,-3.425 -0.425,-2.425
  rectangle: -0.225,-3.425 0.225,-2.425
  rectangle: 0.425,-3.425 0.875,-2.425
  rectangle: 1.075,-3.425 1.525,-2.425
  rectangle: 1.725,-3.425 2.175,-2.425
  region: 2.175,3.425 1.725,3.425 1.725,2.425 2.175,2.425
  region: 1.525,3.425 1.075,3.425 1.075,2.425 1.525,2.425
  region: 0.875,3.425 0.425,3.425 0.425,2.425 0.875,2.425
  region: 0.225,3.425 -0.225,3.425 -0.225,2.425 0.225,2.425
  region: -0.425,3.425 -0.875,3.425 -0.875,2.425 -0.425,2.425
  region: -1.075,3.425 -1.525,3.425 -1.525,2.425 -1.075,2.425
  region: -1.725,3.425 -2.175,3.425 -2.175,2.425 -1.725,2.425
Mechanical 2:
  circle w0: c-1.625,-1.3 r0.459
  lines w0.203: -2.45,-2.15 2.45,-2.15 2.45,2.15 -2.45,2.15 -2.45,-2.15
Mechanical 18:
  rectangle: -2.1,-3.3 -1.8,-2.225
  rectangle: -1.45,-3.3 -1.15,-2.225
  rectangle: -0.8,-3.3 -0.5,-2.225
  rectangle: -0.15,-3.3 0.15,-2.225
  rectangle: 0.5,-3.3 0.8,-2.225
  rectangle: 1.15,-3.3 1.45,-2.225
  rectangle: 1.8,-3.3 2.1,-2.225
  region: 2.1,3.3 1.8,3.3 1.8,2.225 2.1,2.225
  region: 1.45,3.3 1.15,3.3 1.15,2.225 1.45,2.225
  region: 0.8,3.3 0.5,3.3 0.5,2.225 0.8,2.225
  region: 0.15,3.3 -0.15,3.3 -0.15,2.225 0.15,2.225
  region: -0.5,3.3 -0.8,3.3 -0.8,2.225 -0.5,2.225
  region: -1.15,3.3 -1.45,3.3 -1.45,2.225 -1.15,2.225
  region: -1.8,3.3 -2.1,3.3 -2.1,2.225 -1.8,2.225